# Altium schematic symbol library bno055.SchLib: 1 symbol
Pins are listed as number, name and electrical type; pins without a type are passive.

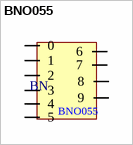
[diagram p0: symbol BNO055]

## BNO055
designator BN  (value not drawn)
footprint bno055
pins: 0, 1, 2, 3, 4, 5, 6, 7, 8, 9